# EAGLE library part AD8348 (library ad8348)
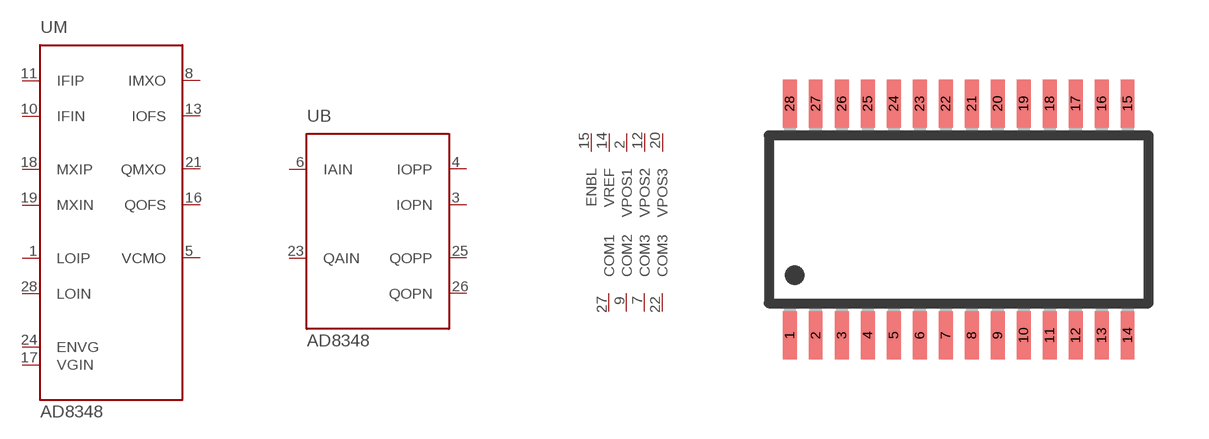
[diagram p0: symbol with the pads of TSSOP28; footprint TSSOP28]

Designator prefix -; gates M=IQMIX B=OBUF P=PWR

## AD8348  [TSSOP28]
1  M:LOIP  in
2  P:VPOS1  pwr
3  B:IOPN  out
4  B:IOPP  out
5  M:VCMO  in
6  B:IAIN  in
7  P:COM3  pwr
8  M:IMXO  out
9  P:COM2  pwr
10  M:IFIN  in
11  M:IFIP  in
12  P:VPOS2  pwr
13  M:IOFS  in
14  P:VREF  pwr
15  P:ENBL  pwr
16  M:QOFS  in
17  M:VGIN  in
18  M:MXIP  in
19  M:MXIN  in
20  P:VPOS3  pwr
21  M:QMXO  out
22  P:COM3  pwr
23  B:QAIN  in
24  M:ENVG  in
25  B:QOPP  out
26  B:QOPN  out
27  P:COM1  pwr
28  M:LOIN  in

## Footprint TSSOP28 (pad centres in mm)
28-Lead TSSOP Package RU-28
smd 0.35 x 1.2: 1 -4.225,-2.9; 2 -3.575,-2.9; 3 -2.925,-2.9; 4 -2.275,-2.9; 5 -1.625,-2.9; 6 -0.975,-2.9; 7 -0.325,-2.9; 8 0.325,-2.9; 9 0.975,-2.9; 10 1.625,-2.9; 11 2.275,-2.9; 12 2.925,-2.9; 13 3.575,-2.9; 14 4.225,-2.9; 15 4.225,2.9; 16 3.575,2.9; 17 2.925,2.9; 18 2.275,2.9; 19 1.625,2.9; 20 0.975,2.9; 21 0.325,2.9; 22 -0.325,2.9; 23 -0.975,2.9; 24 -1.625,2.9; 25 -2.275,2.9; 26 -2.925,2.9; 27 -3.575,2.9; 28 -4.225,2.9